# EAGLE library part 93LC56BT (library ds_ic_memory)
2K Microwire Compatible Serial EEPROM
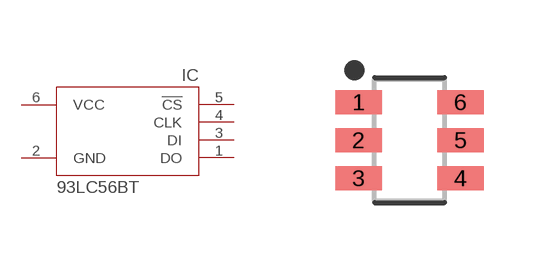
[diagram p6: symbol with the pads of SOT95P280X145-6N; footprint SOT95P280X145-6N]

Designator prefix IC

## 93LC56BT-I/OT (DATASHEET: https://ww1.microchip.com/downloads/aemDocuments/documents/MPD/ProductDocuments/DataSheets/93AA56X-93LC56X-93C56X-2-Kbit-Microwire-Compatible-Serial-EEPROM-Data-Sheet.pdf; DESCRIPTION: 2Kbit SPI SOT-23-6 EEPROM ROHS; LCSC_PART: C190271; VALUE: 93LC56BT-I/OT)  [SOT95P280X145-6N]
1  DO  out
2  GND  pwr
3  DI  in
4  CLK  in
5  !CS  in
6  VCC  pwr

## Footprint SOT95P280X145-6N (pad centres in mm)
6-SOT23, 0.95 mm pitch, 2.80 mm span, 2.92 X 1.63 X 1.45 mm body 6-pin SOT23 package with 0.95 mm pitch, 2.80 mm span with body size 2.92 X 1.63 X 1.45 mm
smd 1.165 x 0.597: 1 -1.275,0.95; 2 -1.275,0; 3 -1.275,-0.95; 4 1.275,-0.95; 5 1.275,0; 6 1.275,0.95